# EAGLE library part PL-2303XA (library SparkFun-Retired)
Prolific USB chip, requires 12MHz xtal Never stocked
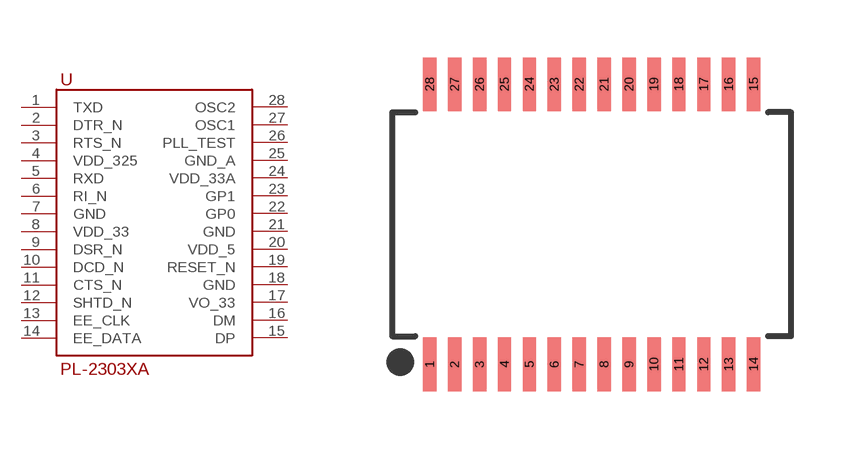
[diagram p38: symbol with the pads of SSOP28DB; footprint SSOP28DB]

Designator prefix -

## PL-2303XA  [SSOP28DB]
1  TXD
2  DTR_N
3  RTS_N
4  VDD_325
5  RXD
6  RI_N
7  GND
8  VDD_33
9  DSR_N
10  DCD_N
11  CTS_N
12  SHTD_N
13  EE_CLK
14  EE_DATA
15  DP
16  DM
17  VO_33
18  GND
19  RESET_N
20  VDD_5
21  GND
22  GP0
23  GP1
24  VDD_33A
25  GND_A
26  PLL_TEST
27  OSC1
28  OSC2

## Footprint SSOP28DB (pad centres in mm)
Small Shrink Outline Package
smd 0.348 x 1.397: 1 -4.225,-3.656; 2 -3.575,-3.656; 3 -2.925,-3.656; 4 -2.275,-3.656; 5 -1.625,-3.656; 6 -0.975,-3.656; 7 -0.325,-3.656; 8 0.325,-3.656; 9 0.975,-3.656; 10 1.625,-3.656; 11 2.275,-3.656; 12 2.925,-3.656; 13 3.575,-3.656; 14 4.225,-3.656; 15 4.225,3.656; 16 3.575,3.656; 17 2.925,3.656; 18 2.275,3.656; 19 1.625,3.656; 20 0.975,3.656; 21 0.325,3.656; 22 -0.325,3.656; 23 -0.975,3.656; 24 -1.625,3.656; 25 -2.275,3.656; 26 -2.925,3.656; 27 -3.575,3.656; 28 -4.225,3.656